# EAGLE library part PCB_CONTROLLERS (library EL_POTENCIA_LIBRERIA_VES2018)
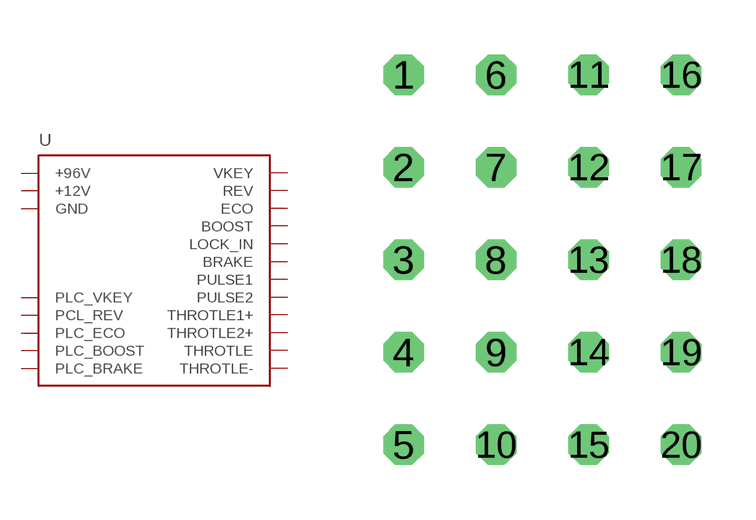
[diagram p16: symbol with the pads of PCB_CONTROLLERS; footprint PCB_CONTROLLERS]

Designator prefix -

## PCB_CONTROLLERS  [PCB_CONTROLLERS]
1  +12V
2  +96V
3  BOOST
4  LOCK_IN
5  BRAKE
6  ECO
7  GND
8  PULSE1
9  PCL_REV
10  PLC_BOOST
11  PLC_BRAKE
12  PLC_ECO
13  PLC_VKEY
14  PULSE2
15  REV
16  THROTLE
17  THROTLE-
18  THROTLE1+
19  THROTLE2+
20  VKEY

## Footprint PCB_CONTROLLERS (pad centres in mm)
drill 0.6 octagon: 1 -3.81,5.08; 2 -3.81,2.54; 3 -3.81,0; 4 -3.81,-2.54; 5 -3.81,-5.08; 6 -1.27,5.08; 7 -1.27,2.54; 8 -1.27,0; 9 -1.27,-2.54; 10 -1.27,-5.08; 11 1.27,5.08; 12 1.27,2.54; 13 1.27,0; 14 1.27,-2.54; 15 1.27,-5.08; 16 3.81,5.08; 17 3.81,2.54; 18 3.81,0; 19 3.81,-2.54; 20 3.81,-5.08